# Altium footprint library РАЗЪЕМЫ-MM.PcbLib: 85 footprints (part 4 of 6)
Each footprint in its own frame and in the unit in brackets; x right, y up, seen from the top. Pads: shape width x height; smd on the part's side, far side on the other; paste and mask are expansions set on the pad; w line width, h text height; cw(c..) or ccw(c..) is an arc to the next point about the centre after c.
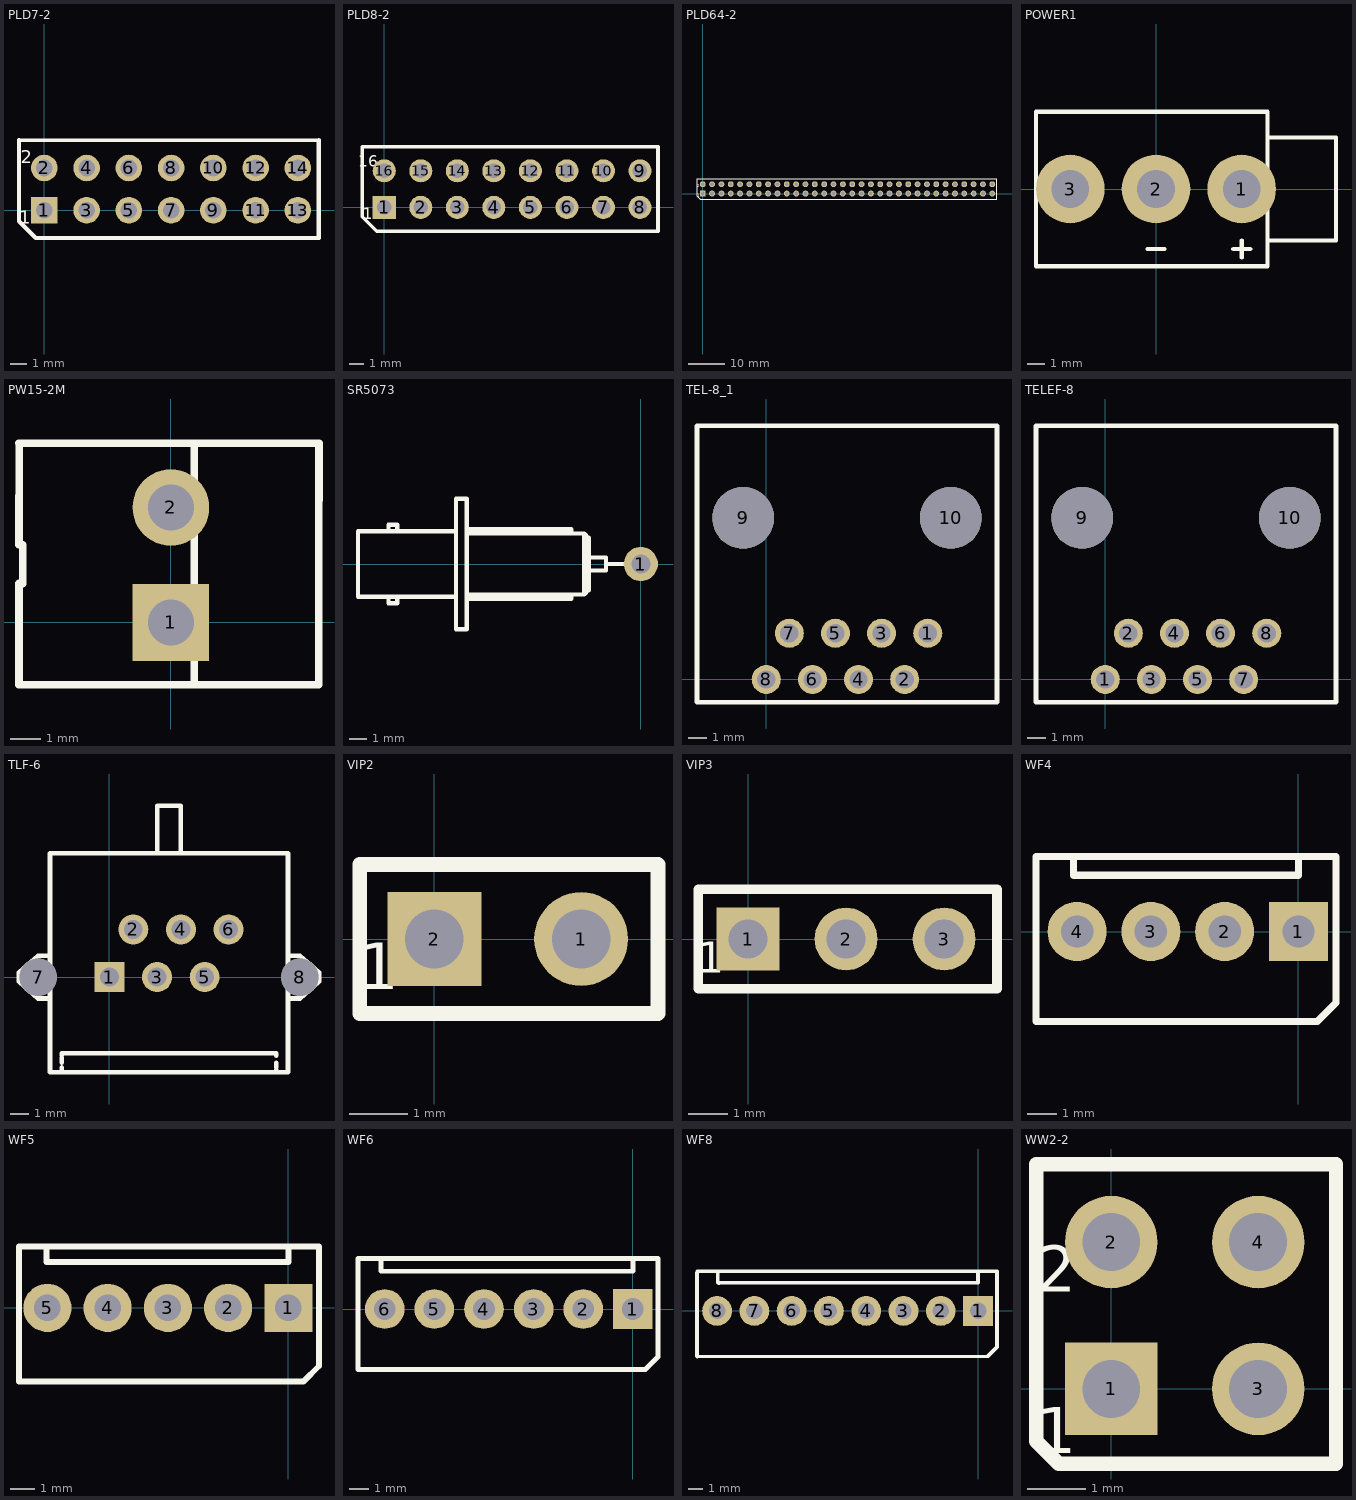
[diagram p3: the footprints below, top view; thin cyan lines are the x and y axes]

## PLD7-2 [mm]
pads (14):
  rect 1.6x1.6 hole 1: 1(0,0)
  round 1.6 hole 1: 2(0,2.54) 3(2.54,0) 4(2.54,2.54) 5(5.08,0) 6(5.08,2.54) 7(7.62,0) 8(7.62,2.54) 9(10.16,0) 10(10.16,2.54) 11(12.7,0) 12(12.7,2.54) 13(15.24,0) 14(15.24,2.54)
Top Overlay:
  lines w0.25: 16.497,-1.662 16.497,4.221 ; 16.51,-1.651 -0.517,-1.667 -1.523,-0.661 -1.523,4.216 16.51,4.191
  text "2" at -1.429,2.826 h0.79
  text "1" at -1.51,-0.815 h0.79

## PLD8-2 [mm]
pads (16):
  rect 1.6x1.6 hole 1: 1(0,0)
  round 1.6 hole 1: 2(2.54,0) 3(5.08,0) 4(7.62,0) 5(10.16,0) 6(12.7,0) 7(15.24,0) 8(17.78,0) 9(17.78,2.54) 10(15.24,2.54) 11(12.7,2.54) 12(10.16,2.54) 13(7.62,2.54) 14(5.08,2.54) 15(2.54,2.54) 16(0,2.54)
Top Overlay:
  lines w0.25: 19.03,-1.66 -0.517,-1.667 -1.523,-0.661 -1.523,4.216 19.03,4.22 ; 19.037,-1.662 19.037,4.221
  text "16" at -1.826,2.826 h0.79
  text "1" at -1.51,-0.815 h0.79

## PLD64-2 [mm]
pads (64):
  rect 1.6x1.6 hole 1: 1(0,0)
  round 1.6 hole 1: 2(0,2.54) 3(2.54,0) 4(2.54,2.54) 5(5.08,0) 6(5.08,2.54) 7(7.62,0) 8(7.62,2.54) 9(10.16,0) 10(10.16,2.54) 11(12.7,0) 12(12.7,2.54) 13(15.24,0) 14(15.24,2.54) 15(17.78,0) 16(17.78,2.54) 17(20.32,0) 18(20.32,2.54) 19(22.86,0) 20(22.86,2.54) 21(25.4,0) 22(25.4,2.54) 23(27.94,0) 24(27.94,2.54) 25(30.48,0) 26(30.48,2.54) 27(33.02,0) 28(33.02,2.54) 29(35.56,0) 30(35.56,2.54) 31(38.1,0) 32(38.1,2.54) 33(40.64,0) 34(40.64,2.54) 35(43.18,0) 36(43.18,2.54) 37(45.72,0) 38(45.72,2.54) 39(48.26,0) 40(48.26,2.54) 41(50.8,0) 42(50.8,2.54) 43(53.34,0) 44(53.34,2.54) 45(55.88,0) 46(55.88,2.54) 47(58.42,0) 48(58.42,2.54) 49(60.96,0) 50(60.96,2.54) 51(63.5,0) 52(63.5,2.54) 53(66.04,0) 54(66.04,2.54) 55(68.58,0) 56(68.58,2.54) 57(71.12,0) 58(71.12,2.54) 59(73.66,0) 60(73.66,2.54) 61(76.2,0) 62(76.2,2.54) 63(78.74,0) 64(78.74,2.54)
Top Overlay:
  lines w0.25: 79.959,-1.575 -0.711,-1.524 -1.524,-0.711 -1.524,4.064 80.01,4.064 ; 79.985,-1.524 79.985,4.064
  text "2" at -1.556,1.683 h0.79
  text "1" at -1.556,-0.857 h0.79

## POWER1 [mm]
pads (3):
  round 4 hole 2.2: 1(5,0) 2(0,0) 3(-5,0)
Top Overlay:
  lines w0.254: -0.5,-3.5 0.5,-3.5 ; 4.5,-3.5 5.5,-3.5 ; 5,-4 5,-3 ; 6.5,-3 10.5,-3 10.5,3 10,3 6.5,3 ; -7,-4.5 6.5,-4.5 6.5,4.5 -7,4.5 -7,3 -7,-3.5 -7,-4.5

## PW15-2M [mm]
pads (2):
  rect 2.5x2.5 hole 1.5: 1(0,0)
  round 2.5 hole 1.5: 2(0,3.75)
Top Overlay:
  lines w0.25: -4.953,5.846 4.826,5.846 ; -4.95,5.83 -4.953,2.54 -4.826,2.54 -4.826,1.27 -4.953,1.27 -4.953,-2.032 4.826,-2.032 4.826,2.032 4.83,5.84 ; 0.76,5.83 0.762,-2.032 ; -0.254,-0.254 0.254,0.254 ; -0.254,-0.254 0.254,-0.254 ; -0.254,-0.254 -0.254,0.254 ; -0.254,0.254 0.254,-0.254 ; -0.254,0.254 0.254,0.254 ; -0.254,3.56 0.254,4.068 ; -0.254,3.56 0.254,3.56 ; -0.254,3.56 -0.254,4.068 ; -0.254,4.068 0.254,3.56 ; -0.254,4.068 0.254,4.068 ; 0.254,-0.254 0.254,0.254 ; 0.254,3.56 0.254,4.068

## SR5073 [mm]
pads (1):
  round 2 hole 1.1: 1(0,0)
Top Overlay:
  lines w0.25: -10.795,-1.905 -16.51,-1.905 -16.51,1.905 -10.795,1.905 ; -10.16,-2.032 -4.064,-2.032 -4.064,-1.905 ; -10.16,-1.778 -3.302,-1.778 ; -10.16,1.778 -3.302,1.778 ; -10.16,2.032 -4.064,2.032 -4.064,1.905 ; -3.048,-0.381 -2.032,-0.381 -2.032,0.381 -3.048,0.381 ; -2.032,0 0,0 ; -3.302,-1.778 -3.302,1.778 ; -3.302,-1.778 -3.048,-1.524 -3.048,1.524 -3.302,1.778 ; -14.732,-2.286 -14.732,-1.905 -14.224,-1.905 -14.224,-2.286 -14.732,-2.286 ; -14.732,1.905 -14.732,2.286 -14.224,2.286 -14.224,1.905 -14.732,1.905 ; -10.795,-3.81 -10.795,3.81 -10.16,3.81 -10.16,-3.81 -10.795,-3.81

## TEL-8_1 [mm]
pads (10):
  round 1.6 hole 1: 1(8.89,2.54) 2(7.62,0) 3(6.35,2.54) 4(5.08,0) 5(3.81,2.54) 6(2.54,0) 7(1.27,2.54) 8(0,0)
  round 3.4 hole 3.4: 9(-1.27,8.89) 10(10.16,8.89)
Top Overlay:
  lines w0.25: -3.81,-1.27 12.7,-1.27 12.7,13.97 -3.81,13.97 -3.81,-1.27

## TELEF-8 [mm]
pads (10):
  round 1.6 hole 1: 1(0,0) 2(1.27,2.54) 3(2.54,0) 4(3.81,2.54) 5(5.08,0) 6(6.35,2.54) 7(7.62,0) 8(8.89,2.54)
  round 3.4 hole 3.4: 9(-1.27,8.89) 10(10.16,8.89)
Top Overlay:
  lines w0.25: -3.81,-1.27 12.7,-1.27 12.7,13.97 -3.81,13.97 -3.81,-1.27

## TLF-6 [mm]
pads (8):
  rect 1.6x1.6 hole 1: 1(0,0)
  round 1.6 hole 1: 2(1.27,2.54) 3(2.54,0) 4(3.81,2.54) 5(5.08,0) 6(6.35,2.54)
  round 2 hole 2: 7(-3.81,0) 8(10.16,0)
Top Overlay:
  lines w0.25: -3.175,-1.143 -3.81,-1.143 -4.826,-0.254 -4.826,0.254 -3.81,1.143 -3.556,1.143 -3.175,1.143 ; -2.54,-5.08 -2.54,-4.826 ; -2.54,-4.572 -2.54,-4.318 ; -2.54,-4.191 -2.54,-4.064 8.89,-4.064 8.89,-4.191 ; 2.54,6.604 2.54,9.144 3.81,9.144 3.81,6.604 ; 8.89,-5.08 8.89,-4.953 ; 8.89,-4.826 8.89,-4.572 ; 9.525,-1.143 10.16,-1.143 11.176,-0.254 11.176,0.254 10.16,1.143 9.906,1.143 9.525,1.143 ; -3.175,-5.08 7.62,-5.08 9.525,-5.08 9.525,6.604 -3.175,6.604 -3.175,-5.08

## VIP2 [mm]
pads (2):
  round 1.6 hole 1: 1(2.5,0)
  rect 1.6x1.6 hole 1: 2(0,0)
Top Overlay:
  lines w0.25: -1.27,-1.27 3.81,-1.27 3.81,1.27 -1.27,1.27 -1.27,-1.27
  text "1" at -1.302,-0.857 h0.79

## VIP3 [mm]
pads (3):
  rect 1.6x1.6 hole 1: 1(0,0)
  round 1.6 hole 1: 2(2.5,0) 3(5,0)
Top Overlay:
  lines w0.25: -1.27,-1.27 6.35,-1.27 6.35,1.27 -1.27,1.27 -1.27,-1.27
  text "1" at -1.302,-0.857 h0.79

## WF4 [mm]
pads (4):
  rect 2x2 hole 1.1: 1(0,0)
  round 2 hole 1.1: 2(-2.5,0) 3(-5,0) 4(-7.5,0)
Top Overlay:
  lines w0.25: -7.62,2.54 -7.62,1.905 0,1.905 0,2.54 ; -8.89,-3.048 0.635,-3.048 1.27,-2.413 1.27,2.54 -8.89,2.54 -8.89,-3.048

## WF5 [mm]
pads (5):
  rect 2x2 hole 1.1: 1(0,0)
  round 2 hole 1.1: 2(-2.5,0) 3(-5,0) 4(-7.5,0) 5(-10,0)
Top Overlay:
  lines w0.25: -11.178,-3.048 -11.178,2.54 ; -11.176,-3.048 0.635,-3.048 1.27,-2.413 1.27,2.54 -11.176,2.54 ; -10.033,2.54 -10.033,1.905 0,1.905 0,2.54

## WF6 [mm]
pads (6):
  rect 2x2 hole 1.1: 1(0,0)
  round 2 hole 1.1: 2(-2.5,0) 3(-5,0) 4(-7.5,0) 5(-10,0) 6(-12.5,0)
Top Overlay:
  lines w0.25: -13.85,-3.05 0.635,-3.048 1.27,-2.413 1.27,2.54 -13.85,2.55 ; -13.845,-3.048 -13.845,2.54 ; -12.7,2.54 -12.7,1.905 0,1.905 0,2.54

## WF8 [mm]
pads (8):
  rect 2x2 hole 1.1: 1(0,0)
  round 2 hole 1.1: 2(-2.5,0) 3(-5,0) 4(-7.5,0) 5(-10,0) 6(-12.5,0) 7(-15,0) 8(-17.5,0)
Top Overlay:
  lines w0.25: -18.845,-3.048 -18.845,2.54 ; -18.835,-3.08 0.635,-3.048 1.27,-2.413 1.27,2.54 ; -18.835,2.635 1.27,2.665 ; -17.45,1.905 -17.45,2.54 ; -17.375,1.875 0,1.905 0,2.54

## WW2-2 [mm]
pads (4):
  rect 1.6x1.6 hole 1: 1(0,0)
  round 1.6 hole 1: 2(0,2.54) 3(2.54,0) 4(2.54,2.54)
Top Overlay:
  lines w0.25: -1.295,-0.907 -1.295,3.886 3.886,3.886 3.886,-1.295 -0.907,-1.295 -1.295,-0.907
  text "2" at -1.302,1.683 h0.79
  text "1" at -1.302,-1.111 h0.79